# Altium schematic symbol library 1825910-6.SchLib: 1 symbol
Pins are listed as number, name and electrical type; pins without a type are passive.

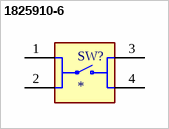
[diagram p0: symbol 1825910-6]

## 1825910-6
designator SW?
Switch Tactile OFF (ON) SPST Round Button PC Pins 0.05A 24VDC 100000Cycles 1.57N Thru-Hole Loose; MF: {'manufacturer': u'TE Connectivity'}; MP: 1825910-6; Package: None; Price: None; Value: *; Availability: Unavailable
footprint SW_1825910-6-4
pins: 1, 2, 3, 4